# Altium schematic symbol library TSM-103-01-L-SH-P-TR.SchLib: 1 symbol
Pins are listed as number, name and electrical type; pins without a type are passive.

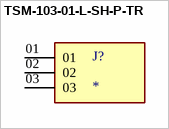
[diagram p0: symbol TSM-103-01-L-SH-P-TR]

## TSM-103-01-L-SH-P-TR
designator J?
MF: Samtec; MP: TSM-103-01-L-SH-P-TR; Availability: Unavailable; Package: None; Value: *; Price: None
footprint SAMTEC_TSM-103-01-L-SH-P-TR
pins: 01, 02, 03